# EAGLE library part DF12D-3.0-60 (library con-hirose-DF12D(3.0)60DP0.5V80)
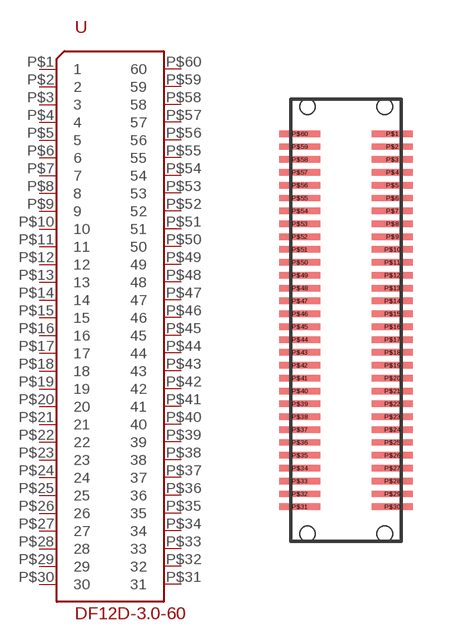
[diagram p0: symbol with the pads of DF12-3.0-60; footprint DF12-3.0-60]

Designator prefix -

## DF12D-3.0-60  [DF12-3.0-60]
P$1  1
P$2  2
P$3  3
P$4  4
P$5  5
P$6  6
P$7  7
P$8  8
P$9  9
P$10  10
P$11  11
P$12  12
P$13  13
P$14  14
P$15  15
P$16  16
P$17  17
P$18  18
P$19  19
P$20  20
P$21  21
P$22  22
P$23  23
P$24  24
P$25  25
P$26  26
P$27  27
P$28  28
P$29  29
P$30  30
P$31  31
P$32  32
P$33  33
P$34  34
P$35  35
P$36  36
P$37  37
P$38  38
P$39  39
P$40  40
P$41  41
P$42  42
P$43  43
P$44  44
P$45  45
P$46  46
P$47  47
P$48  48
P$49  49
P$50  50
P$51  51
P$52  52
P$53  53
P$54  54
P$55  55
P$56  56
P$57  57
P$58  58
P$59  59
P$60  60

## Footprint DF12-3.0-60 (pad centres in mm)
Hirose Electric Co 60 pin connector PN: DF12D(3.0)-60DP-0.5V
smd 1.6 x 0.25: P$1 1.8,7.25; P$2 1.8,6.75; P$3 1.8,6.25; P$4 1.8,5.75; P$5 1.8,5.25; P$6 1.8,4.75; P$7 1.8,4.25; P$8 1.8,3.75; P$9 1.8,3.25; P$10 1.8,2.75; P$11 1.8,2.25; P$12 1.8,1.75; P$13 1.8,1.25; P$14 1.8,0.75; P$15 1.8,0.25; P$16 1.8,-0.25; P$17 1.8,-0.75; P$18 1.8,-1.25; P$19 1.8,-1.75; P$20 1.8,-2.25; P$21 1.8,-2.75; P$22 1.8,-3.25; P$23 1.8,-3.75; P$24 1.8,-4.25; P$25 1.8,-4.75; P$26 1.8,-5.25; P$27 1.8,-5.75; P$28 1.8,-6.25; P$29 1.8,-6.75; P$30 1.8,-7.25; P$31 -1.8,-7.25; P$32 -1.8,-6.75; P$33 -1.8,-6.25; P$34 -1.8,-5.75; P$35 -1.8,-5.25; P$36 -1.8,-4.75; P$37 -1.8,-4.25; P$38 -1.8,-3.75; P$39 -1.8,-3.25; P$40 -1.8,-2.75; P$41 -1.8,-2.25; P$42 -1.8,-1.75; P$43 -1.8,-1.25; P$44 -1.8,-0.75; P$45 -1.8,-0.25; P$46 -1.8,0.25; P$47 -1.8,0.75; P$48 -1.8,1.25; P$49 -1.8,1.75; P$50 -1.8,2.25; P$51 -1.8,2.75; P$52 -1.8,3.25; P$53 -1.8,3.75; P$54 -1.8,4.25; P$55 -1.8,4.75; P$56 -1.8,5.25; P$57 -1.8,5.75; P$58 -1.8,6.25; P$59 -1.8,6.75; P$60 -1.8,7.25
hole 0.6 at -1.5,8.3
hole 0.6 at 1.5,8.3
hole 0.6 at 1.5,-8.3
hole 0.6 at -1.5,-8.3